# Altium schematic symbol library CL31B106KBK6PJE.SchLib: 1 symbol
Pins are listed as number, name and electrical type; pins without a type are passive.

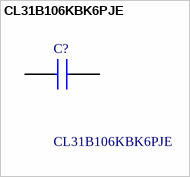
[diagram p0: symbol CL31B106KBK6PJE]

## CL31B106KBK6PJE
designator C?
Multilayer Ceramic Capacitors MLCC - SMD/SMT 1206/3216,10uF,X7R,50Vdc,+/-10%; Manufacturer_Name: SAMSUNG; Geometry.Height: 1.9mm; Mouser Part Number: 187-CL31B106KBK6PJE; Mouser Price/Stock: https://www.mouser.co.uk/ProductDetail/Samsung-Electro-Mechanics/CL31B106KBK6PJE?qs=3vio67wFuYp0lbjHU%2FUvIA%3D%3D; Manufacturer_Part_Number: CL31B106KBK6PJE; Datasheet Link: https://product.samsungsem.com/mlcc/CL31B106KBK6PJ.do
footprint CAPC3216X190N
pins: 1, 2